# Altium schematic symbol library BLM18AG102SN1D.SchLib: 1 symbol
Pins are listed as number, name and electrical type; pins without a type are passive.

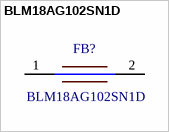
[diagram p0: symbol BLM18AG102SN1D]

## BLM18AG102SN1D
designator FB?
MURATA - BLM18AG102SN1D - Ferrite Bead, 0603 [1608 Metric], 1 kohm, 400 mA, BLM18A Series, 0.5 ohm, +/- 25%; Manufacturer_Name: Murata Electronics; Geometry.Height: 0.95mm; Mouser Part Number: 81-BLM11A102S; Mouser Price/Stock: https://www.mouser.co.uk/ProductDetail/Murata-Electronics/BLM18AG102SN1D?qs=b2kFoOhrN4V4XjRBmusv4w%3D%3D; Manufacturer_Part_Number: BLM18AG102SN1D; Datasheet Link: http://www.murata.com/~/media/webrenewal/support/library/catalog/products/emc/emifil/c31e.ashx?la=en-gb
footprint BLM18EG121SH1D
pins: 1, 2